# Altium footprint library con-harting.PCBLIB: 29 footprints (part 1 of 2)
Each footprint in its own frame and in the unit in brackets; x right, y up, seen from the top. Pads: shape width x height; smd on the part's side, far side on the other; paste and mask are expansions set on the pad; w line width, h text height; cw(c..) or ccw(c..) is an arc to the next point about the centre after c.
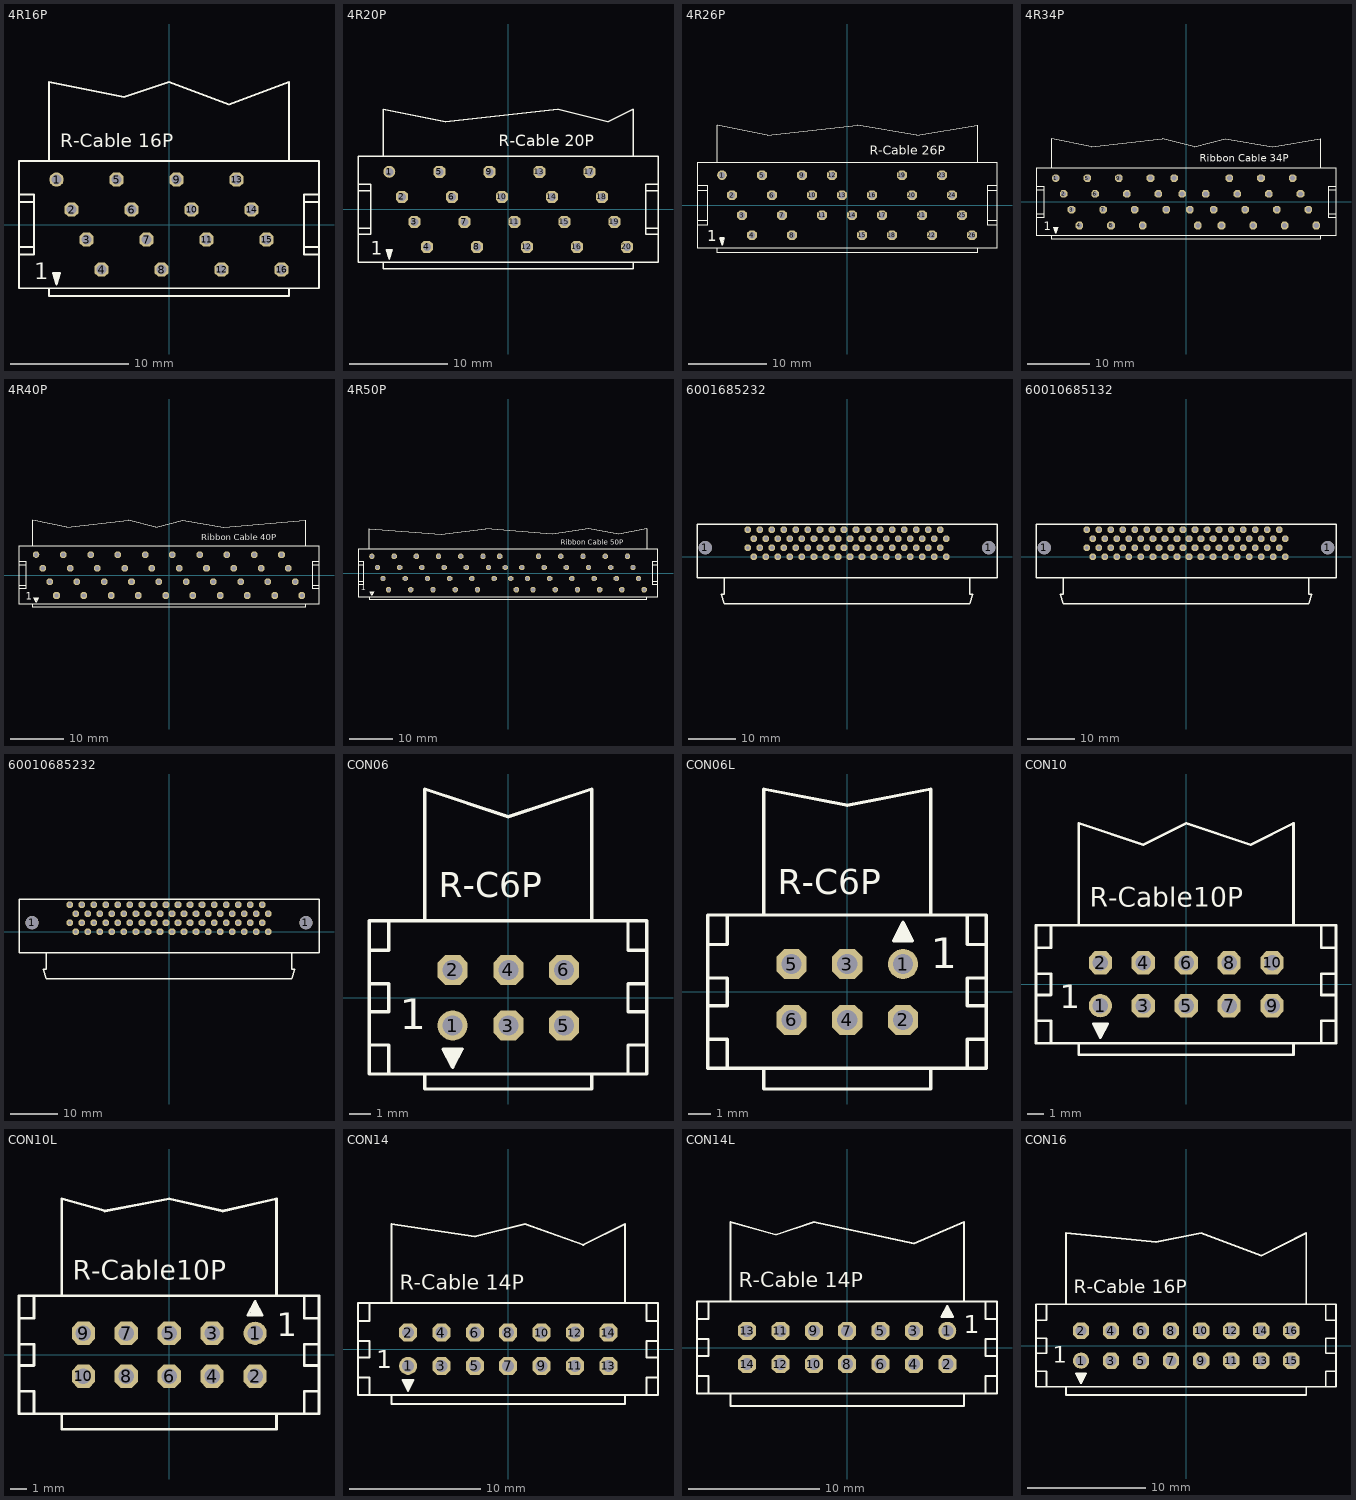
[diagram p0: the footprints below, top view; thin cyan lines are the x and y axes]

## 4R16P [mil]
pads (16):
  round 48 hole 32: 1(-375,150)
  oct 48x48 hole 32: 2(-325,50) 3(-275,-50) 4(-225,-150) 5(-175,150) 6(-125,50) 7(-75,-50) 8(-25,-150) 9(25,150) 10(75,50) 11(125,-50) 12(175,-150) 13(225,150) 14(275,50) 15(325,-50) 16(375,-150)
Top Overlay:
  rectangle: -380,-180 -370,-160
  rectangle: -370,-175 -365,-160
  rectangle: -385,-175 -380,-160
  rectangle: -380,-190 -370,-180
  lines w6: -375,-190 -375,-200 ; -500,-100 -450,-100 -450,-75 ; -500,-100 -500,-212 -400,-212 ; -500,-100 -500,-75 ; -500,-75 -450,-75 ; -500,-75 -500,75 ; -500,75 -500,100 ; -500,75 -450,75 ; -500,100 -500,212 -400,212 ; -500,100 -450,100 -450,75 ; -450,-75 -450,75 ; -400,-212 -400,-238 400,-238 400,-212 ; -400,-212 400,-212 ; -400,212 -400,475 -150,425 0,475 200,400 400,475 400,212 ; -400,212 400,212 ; -375,-200 -363,-162 -387,-162 -375,-200 ; 400,-212 500,-212 500,-100 ; 400,212 500,212 500,100 ; 450,-75 450,75 ; 450,-75 500,-75 ; 450,-75 450,-100 500,-100 ; 450,75 500,75 ; 450,75 450,100 500,100 ; 500,-100 500,-75 ; 500,-75 500,75 ; 500,75 500,100
  text "1" at -450,-200 h93
  text "R-Cable 16P" at -362,242 h77.5

## 4R20P [mil]
pads (20):
  round 48 hole 32: 1(-475,150)
  oct 48x48 hole 32: 2(-425,50) 3(-375,-50) 4(-325,-150) 5(-275,150) 6(-225,50) 7(-175,-50) 8(-125,-150) 9(-75,150) 10(-25,50) 11(25,-50) 12(75,-150) 13(125,150) 14(175,50) 15(225,-50) 16(275,-150) 17(325,150) 18(375,50) 19(425,-50) 20(475,-150)
Top Overlay:
  rectangle: -480,-180 -470,-160
  rectangle: -470,-175 -465,-160
  rectangle: -485,-175 -480,-160
  rectangle: -480,-190 -470,-180
  lines w6: -475,-190 -475,-200 ; -600,-100 -550,-100 -550,-75 ; -600,-100 -600,-212 -500,-212 ; -600,-100 -600,-75 ; -600,-75 -550,-75 ; -600,-75 -600,75 ; -600,75 -600,100 ; -600,75 -550,75 ; -600,100 -600,212 -500,212 ; -600,100 -550,100 -550,75 ; -550,-75 -550,75 ; -500,-212 -500,-238 500,-238 500,-212 ; -500,-212 500,-212 ; -500,212 -500,400 -250,350 200,400 400,350 500,400 500,212 ; -500,212 500,212 ; -475,-200 -463,-162 -487,-162 -475,-200 ; 500,-212 600,-212 600,-100 ; 500,212 600,212 600,100 ; 550,-75 550,75 ; 550,-75 600,-75 ; 550,-75 550,-100 600,-100 ; 550,75 600,75 ; 550,75 550,100 600,100 ; 600,-100 600,-75 ; 600,-75 600,75 ; 600,75 600,100
  text "1" at -550,-200 h93
  text "R-Cable 20P" at -37,237 h77.5

## 4R26P [mil]
pads (26):
  round 48 hole 32: 1(-625,150)
  oct 48x48 hole 32: 2(-575,50) 3(-525,-50) 4(-475,-150) 5(-425,150) 6(-375,50) 7(-325,-50) 8(-275,-150) 9(-225,150) 10(-175,50) 11(-125,-50) 12(-75,150) 13(-25,50) 14(25,-50) 15(75,-150) 16(125,50) 17(175,-50) 18(225,-150) 19(275,150) 20(325,50) 21(375,-50) 22(425,-150) 23(475,150) 24(525,50) 25(575,-50) 26(625,-150)
Top Overlay:
  rectangle: -630,-180 -620,-160
  rectangle: -620,-175 -615,-160
  rectangle: -635,-175 -630,-160
  rectangle: -630,-190 -620,-180
  lines w6: -625,-190 -625,-200 ; -750,-100 -700,-100 -700,-75 ; -750,-100 -750,-212 -650,-212 ; -750,-100 -750,-75 ; -750,-75 -700,-75 ; -750,-75 -750,75 ; -750,75 -750,100 ; -750,75 -700,75 ; -750,100 -750,212 -650,212 ; -750,100 -700,100 -700,75 ; -700,-75 -700,75 ; -650,-212 -650,-238 650,-238 650,-212 ; -650,-212 650,-212 ; -650,212 -650,400 -400,350 50,400 350,350 650,400 650,212 ; -650,212 650,212 ; -625,-200 -613,-162 -637,-162 -625,-200 ; 650,-212 750,-212 750,-100 ; 650,212 750,212 750,100 ; 700,-75 700,75 ; 700,-75 750,-75 ; 700,-75 700,-100 750,-100 ; 700,75 750,75 ; 700,75 700,100 750,100 ; 750,-100 750,-75 ; 750,-75 750,75 ; 750,75 750,100
  text "1" at -700,-200 h93
  text "R-Cable 26P" at 113,237 h77.5

## 4R34P [mil]
pads (34):
  round 48 hole 32: 1(-825,150)
  oct 48x48 hole 32: 2(-775,50) 3(-725,-50) 4(-675,-150) 5(-625,150) 6(-575,50) 7(-525,-50) 8(-475,-150) 9(-425,150) 10(-375,50) 11(-325,-50) 12(-275,-150) 13(-225,150) 14(-175,50) 15(-125,-50) 16(-75,150) 17(-25,50) 18(25,-50) 19(75,-150) 20(125,50) 21(175,-50) 22(225,-150) 23(275,150) 24(325,50) 25(375,-50) 26(425,-150) 27(475,150) 28(525,50) 29(575,-50) 30(625,-150) 31(675,150) 32(725,50) 33(775,-50) 34(825,-150)
Top Overlay:
  rectangle: -830,-180 -820,-160
  rectangle: -820,-175 -815,-160
  rectangle: -835,-175 -830,-160
  rectangle: -830,-190 -820,-180
  lines w6: -825,-190 -825,-200 ; -950,-100 -900,-100 -900,-75 ; -950,-100 -950,-212 -850,-212 ; -950,-100 -950,-75 ; -950,-75 -900,-75 ; -950,-75 -950,75 ; -950,75 -950,100 ; -950,75 -900,75 ; -950,100 -950,212 -850,212 ; -950,100 -900,100 -900,75 ; -900,-75 -900,75 ; -850,-212 -850,-238 850,-238 850,-212 ; -850,-212 850,-212 ; -850,212 -850,400 -600,350 -150,400 51,350 250,400 550,350 850,400 850,212 ; -850,212 850,212 ; -825,-200 -813,-162 -837,-162 -825,-200 ; 850,-212 950,-212 950,-100 ; 850,212 950,212 950,100 ; 900,-75 900,75 ; 900,-75 950,-75 ; 900,-75 900,-100 950,-100 ; 900,75 950,75 ; 900,75 900,100 950,100 ; 950,-100 950,-75 ; 950,-75 950,75 ; 950,75 950,100
  text "1" at -900,-200 h93
  text "Ribbon Cable 34P" at 88,237 h77.5

## 4R40P [mil]
pads (40):
  round 48 hole 32: 1(-975,150)
  oct 48x48 hole 32: 2(-925,50) 3(-875,-50) 4(-825,-150) 5(-775,150) 6(-725,50) 7(-675,-50) 8(-625,-150) 9(-575,150) 10(-525,50) 11(-475,-50) 12(-425,-150) 13(-375,150) 14(-325,50) 15(-275,-50) 16(-225,-150) 17(-175,150) 18(-125,50) 19(-75,-50) 20(-25,-150) 21(25,150) 22(75,50) 23(125,-50) 24(175,-150) 25(225,150) 26(275,50) 27(325,-50) 28(375,-150) 29(425,150) 30(475,50) 31(525,-50) 32(575,-150) 33(625,150) 34(675,50) 35(725,-50) 36(775,-150) 37(825,150) 38(875,50) 39(925,-50) 40(975,-150)
Top Overlay:
  rectangle: -985,-182 -965,-172
  rectangle: -975,-173 -960,-168
  rectangle: -990,-173 -975,-168
  rectangle: -980,-192 -970,-182
  lines w6: -975,-190 -975,-200 ; -1100,-100 -1050,-100 -1050,-75 ; -1100,-100 -1100,-212 -1000,-212 ; -1100,-100 -1100,-75 ; -1100,-75 -1050,-75 ; -1100,-75 -1100,75 ; -1100,75 -1100,100 ; -1100,75 -1050,75 ; -1100,100 -1100,212 -1000,212 ; -1100,100 -1050,100 -1050,75 ; -1050,-75 -1050,75 ; -1000,-212 -1000,-238 1000,-238 1000,-212 ; -1000,-212 1000,-212 ; -1000,212 -1000,400 -750,350 -300,400 -99,350 100,400 400,350 1000,400 1000,212 ; -1000,212 1000,212 ; -975,-200 -958,-167 -992,-167 -975,-200 ; 1000,-212 1100,-212 1100,-100 ; 1000,212 1100,212 1100,100 ; 1050,-75 1050,75 ; 1050,-75 1100,-75 ; 1050,-75 1050,-100 1100,-100 ; 1050,75 1100,75 ; 1050,75 1050,100 1100,100 ; 1100,-100 1100,-75 ; 1100,-75 1100,75 ; 1100,75 1100,100
  text "1" at -1050,-200 h93
  text "Ribbon Cable 40P" at 238,237 h77.5

## 4R50P [mil]
pads (50):
  round 48 hole 32: 1(-1225,150)
  oct 48x48 hole 32: 2(-1175,50) 3(-1125,-50) 4(-1075,-150) 5(-1025,150) 6(-975,50) 7(-925,-50) 8(-875,-150) 9(-825,150) 10(-775,50) 11(-725,-50) 12(-675,-150) 13(-625,150) 14(-575,50) 15(-525,-50) 16(-475,-150) 17(-425,150) 18(-375,50) 19(-325,-50) 20(-275,-150) 21(-225,150) 22(-175,50) 23(-125,-50) 24(-75,150) 25(-25,50) 26(25,-50) 27(75,-150) 28(125,50) 29(175,-50) 30(225,-150) 31(275,150) 32(325,50) 33(375,-50) 34(425,-150) 35(475,150) 36(525,50) 37(575,-50) 38(625,-150) 39(675,150) 40(725,50) 41(775,-50) 42(825,-150) 43(875,150) 44(925,50) 45(975,-50) 46(1025,-150) 47(1075,150) 48(1125,50) 49(1175,-50) 50(1225,-150)
Top Overlay:
  rectangle: -1235,-182 -1215,-172
  rectangle: -1225,-173 -1210,-168
  rectangle: -1240,-173 -1225,-168
  rectangle: -1230,-191 -1220,-181
  lines w6: -1250,-213 -1250,-238 1250,-238 1250,-212 ; -1225,-190 -1225,-200 ; 1250,213 1250,399 999,350 725,400 400,350 -199,400 -600,349 -1250,399 -1250,212 ; -1350,-100 -1300,-100 -1300,-75 ; -1350,-100 -1350,-212 1250,-212 ; -1350,-100 -1350,-75 ; -1350,-75 -1350,75 ; -1350,-75 -1300,-75 ; -1350,75 -1350,100 ; -1350,75 -1300,75 ; -1350,100 -1350,212 -1250,212 ; -1350,100 -1300,100 -1300,75 ; -1300,-75 -1300,75 ; -1250,212 1350,212 1350,100 ; -1225,-200 -1208,-167 -1242,-167 -1225,-200 ; 1250,-212 1350,-212 1350,-100 ; 1300,-75 1300,75 ; 1300,-75 1350,-75 ; 1300,-75 1300,-100 1350,-100 ; 1300,75 1300,100 1350,100 ; 1300,75 1350,75 ; 1350,-100 1350,-75 ; 1350,-75 1350,75 ; 1350,75 1350,100
  text "1" at -1325,-175 h93
  text "Ribbon Cable 50P" at 475,237 h77.5

## 6001685232 [mil]
pads (70):
  round 110.24 hole 110.24: 1(-1178.74,75) 1(1178.74,75)
  oct 55x55 hole 31.5: 1(-825,225) 2(-775,150) 3(-725,225) 4(-675,150) 5(-625,225) 6(-575,150) 7(-525,225) 8(-475,150) 9(-425,225) 10(-375,150) 11(-325,225) 12(-275,150) 13(-225,225) 14(-175,150) 15(-125,225) 16(-75,150) 17(-25,225) 18(25,150) 19(75,225) 20(125,150) 21(175,225) 22(225,150) 23(275,225) 24(325,150) 25(375,225) 26(425,150) 27(475,225) 28(525,150) 29(575,225) 30(625,150) 31(675,225) 32(725,150) 33(775,225) 34(825,150) 35(-825,75) 36(-725,75) 37(-625,75) 38(-525,75) 39(-425,75) 40(-325,75) 41(-225,75) 42(-125,75) 43(-25,75) 44(75,75) 45(175,75) 46(275,75) 47(375,75) 48(475,75) 49(575,75) 50(675,75) 51(775,75) 52(-775,0) 53(-675,0) 54(-575,0) 55(-475,0) 56(-375,0) 57(-275,0) 58(-175,0) 59(-75,0) 60(25,0) 61(125,0) 62(225,0) 63(325,0) 64(425,0) 65(525,0) 66(625,0) 67(725,0) 68(825,0)
Top Overlay:
  lines w11.94: -1019.69,-177.17 1019.69,-177.17 ; -1019.69,-177.17 -1248.03,-177.17 -1248.03,271.65 1248.03,271.65 1248.03,-177.17 1019.69,-177.17 ; -1019.69,-177.17 -1019.69,-311.02 -1047.24,-311.02 -1019.69,-393.7 1019.69,-393.7 1047.24,-311.02 1019.69,-311.02 1019.69,-177.17

## 60010685132 [mil]
pads (70):
  round 110.24 hole 110.24: 1(-1178.74,75) 1(1178.74,75)
  oct 55x55 hole 31.5: 1(825,150) 2(775,225) 3(725,150) 4(675,225) 5(625,150) 6(575,225) 7(525,150) 8(475,225) 9(425,150) 10(375,225) 11(325,150) 12(275,225) 13(225,150) 14(175,225) 15(125,150) 16(75,225) 17(25,150) 18(-25,225) 19(-75,150) 20(-125,225) 21(-175,150) 22(-225,225) 23(-275,150) 24(-325,225) 25(-375,150) 26(-425,225) 27(-475,150) 28(-525,225) 29(-575,150) 30(-625,225) 31(-675,150) 32(-725,225) 33(-775,150) 34(-825,225) 35(825,0) 36(725,0) 37(625,0) 38(525,0) 39(425,0) 40(325,0) 41(225,0) 42(125,0) 43(25,0) 44(-75,0) 45(-175,0) 46(-275,0) 47(-375,0) 48(-475,0) 49(-575,0) 50(-675,0) 51(-775,0) 52(775,75) 53(675,75) 54(575,75) 55(475,75) 56(375,75) 57(275,75) 58(175,75) 59(75,75) 60(-25,75) 61(-125,75) 62(-225,75) 63(-325,75) 64(-425,75) 65(-525,75) 66(-625,75) 67(-725,75) 68(-825,75)
Top Overlay:
  lines w11.94: -1019.69,-177.17 1019.69,-177.17 ; -1019.69,-177.17 -1248.03,-177.17 -1248.03,271.65 1248.03,271.65 1248.03,-177.17 1019.69,-177.17 ; -1019.69,-177.17 -1019.69,-311.02 -1047.24,-311.02 -1019.69,-393.7 1019.69,-393.7 1047.24,-311.02 1019.69,-311.02 1019.69,-177.17

## 60010685232 [mil]
pads (70):
  round 110.24 hole 110.24: 1(-1139.37,75) 1(1139.37,75)
  oct 55x55 hole 31.5: 1(-825,225) 2(-775,150) 3(-725,225) 4(-675,150) 5(-625,225) 6(-575,150) 7(-525,225) 8(-475,150) 9(-425,225) 10(-375,150) 11(-325,225) 12(-275,150) 13(-225,225) 14(-175,150) 15(-125,225) 16(-75,150) 17(-25,225) 18(25,150) 19(75,225) 20(125,150) 21(175,225) 22(225,150) 23(275,225) 24(325,150) 25(375,225) 26(425,150) 27(475,225) 28(525,150) 29(575,225) 30(625,150) 31(675,225) 32(725,150) 33(775,225) 34(825,150) 35(-825,75) 36(-725,75) 37(-625,75) 38(-525,75) 39(-425,75) 40(-325,75) 41(-225,75) 42(-125,75) 43(-25,75) 44(75,75) 45(175,75) 46(275,75) 47(375,75) 48(475,75) 49(575,75) 50(675,75) 51(775,75) 52(-775,0) 53(-675,0) 54(-575,0) 55(-475,0) 56(-375,0) 57(-275,0) 58(-175,0) 59(-75,0) 60(25,0) 61(125,0) 62(225,0) 63(325,0) 64(425,0) 65(525,0) 66(625,0) 67(725,0) 68(825,0)
Top Overlay:
  lines w11.94: -1019.69,-177.17 1019.69,-177.17 ; -1019.69,-177.17 -1248.03,-177.17 -1248.03,271.65 1248.03,271.65 1248.03,-177.17 1019.69,-177.17 ; -1019.69,-177.17 -1019.69,-311.02 -1047.24,-311.02 -1019.69,-393.7 1019.69,-393.7 1047.24,-311.02 1019.69,-311.02 1019.69,-177.17

## CON06 [mil]
pads (6):
  round 54 hole 36: 1(-100,-50)
  oct 54x54 hole 36: 2(-100,50) 3(0,-50) 4(0,50) 5(100,-50) 6(100,50)
Top Overlay:
  rectangle: -110,-109 -90,-99
  rectangle: -115,-99 -100,-94
  rectangle: -100,-99 -85,-94
  rectangle: -105,-117 -95,-107
  lines w6: -100,-115 -100,-125 ; -250,-85 -215,-85 -215,-137 ; -250,-85 -250,-25 ; -250,-85 -250,-137 -215,-137 ; -250,-25 -215,-25 -215,25 -250,25 ; -250,-25 -250,25 ; -250,25 -250,85 ; -250,85 -250,138 -215,138 ; -250,85 -215,85 -215,138 ; -215,-137 -150,-137 ; -215,138 -150,138 ; -150,-137 -150,-164 150,-164 150,-137 ; -150,-137 150,-137 ; -150,138 -150,375 0,325 150,375 150,138 ; -150,138 150,138 ; -100,-125 -83,-92 -117,-92 -100,-125 ; 150,-137 215,-137 ; 150,138 215,138 ; 215,-137 215,-85 249,-85 ; 215,-137 249,-137 249,-85 ; 215,138 249,138 249,85 ; 215,138 215,85 249,85 ; 249,-85 249,-25 ; 249,-25 215,-25 215,25 249,25 ; 249,-25 249,25 ; 249,25 249,85
  text "1" at -195,-75 h93
  text "R-C6P" at -125,165 h77.5

## CON06L [mil]
pads (6):
  round 54 hole 36: 1(100,50)
  oct 54x54 hole 36: 2(100,-50) 3(0,50) 4(0,-50) 5(-100,50) 6(-100,-50)
Top Overlay:
  rectangle: 90,99 110,109
  rectangle: 100,94 115,99
  rectangle: 85,94 100,99
  rectangle: 95,107 105,117
  lines w6: 100,115 100,125 ; -250,-85 -215,-85 -215,-137 ; -250,-85 -250,-25 ; -250,-85 -250,-137 -215,-137 ; -250,-25 -215,-25 -215,25 -250,25 ; -250,-25 -250,25 ; -250,25 -250,85 ; -250,85 -250,138 -215,138 ; -250,85 -215,85 -215,138 ; -215,-137 -150,-137 ; -215,138 -150,138 ; -150,-137 -150,-174 150,-174 150,-137 ; -150,-137 150,-137 ; -150,138 -150,364 0,335 150,364 150,138 ; -150,138 150,138 ; 100,125 83,92 117,92 100,125 ; 150,-137 215,-137 ; 150,138 215,138 ; 215,-137 215,-85 249,-85 ; 215,-137 249,-137 249,-85 ; 215,138 249,138 249,85 ; 215,138 215,85 249,85 ; 249,-85 249,-25 ; 249,-25 215,-25 215,25 249,25 ; 249,-25 249,25 ; 249,25 249,85
  text "1" at 150,25 h93
  text "R-C6P" at -125,160 h77.5

## CON10 [mil]
pads (10):
  round 54 hole 36: 1(-200,-50)
  oct 54x54 hole 36: 2(-200,50) 3(-100,-50) 4(-100,50) 5(0,-50) 6(0,50) 7(100,-50) 8(100,50) 9(200,-50) 10(200,50)
Top Overlay:
  rectangle: -210,-109 -190,-99
  rectangle: -215,-99 -200,-94
  rectangle: -200,-99 -185,-94
  rectangle: -205,-117 -195,-107
  lines w6: -200,-115 -200,-125 ; -350,-85 -315,-85 -315,-137 ; -350,-85 -350,-25 ; -350,-85 -350,-137 -315,-137 ; -350,-25 -315,-25 -315,25 -350,25 ; -350,-25 -350,25 ; -350,25 -350,85 ; -350,85 -350,138 -315,138 ; -350,85 -315,85 -315,138 ; -315,-137 -250,-137 ; -315,138 -250,138 ; -250,-137 -250,-164 250,-164 250,-137 ; -250,-137 250,-137 ; -250,138 -250,375 -100,325 0,375 150,325 250,375 250,138 ; -250,138 250,138 ; -200,-125 -183,-92 -217,-92 -200,-125 ; 250,-137 315,-137 ; 250,138 315,138 ; 315,-137 315,-85 349,-85 ; 315,-137 349,-137 349,-85 ; 315,138 349,138 349,85 ; 315,138 315,85 349,85 ; 349,-85 349,-25 ; 349,-25 315,-25 315,25 349,25 ; 349,-25 349,25 ; 349,25 349,85
  text "1" at -295,-75 h93
  text "R-Cable10P" at -225,165 h77.5

## CON10L [mil]
pads (10):
  round 54 hole 36: 1(200,50)
  oct 54x54 hole 36: 2(200,-50) 3(100,50) 4(100,-50) 5(0,50) 6(0,-50) 7(-100,50) 8(-100,-50) 9(-200,50) 10(-200,-50)
Top Overlay:
  rectangle: 190,99 210,109
  rectangle: 200,94 215,99
  rectangle: 185,94 200,99
  rectangle: 195,107 205,117
  lines w6: 200,115 200,125 ; -350,-85 -315,-85 -315,-137 ; -350,-85 -350,-25 ; -350,-85 -350,-137 -315,-137 ; -350,-25 -315,-25 -315,25 -350,25 ; -350,-25 -350,25 ; -350,25 -350,85 ; -350,85 -350,138 -315,138 ; -350,85 -315,85 -315,138 ; -315,-137 -250,-137 ; -315,138 -250,138 ; -250,-137 -250,-174 250,-174 250,-137 ; -250,-137 250,-137 ; -250,138 -250,364 -150,335 0,364 125,335 250,364 250,138 ; -250,138 250,138 ; 200,125 183,92 217,92 200,125 ; 250,-137 315,-137 ; 250,138 315,138 ; 315,-137 315,-85 349,-85 ; 315,-137 349,-137 349,-85 ; 315,138 349,138 349,85 ; 315,138 315,85 349,85 ; 349,-85 349,-25 ; 349,-25 315,-25 315,25 349,25 ; 349,-25 349,25 ; 349,25 349,85
  text "1" at 250,25 h93
  text "R-Cable10P" at -225,160 h77.5

## CON14 [mil]
pads (14):
  round 54 hole 36: 1(-300,-50)
  oct 54x54 hole 36: 2(-300,50) 3(-200,-50) 4(-200,50) 5(-100,-50) 6(-100,50) 7(0,-50) 8(0,50) 9(100,-50) 10(100,50) 11(200,-50) 12(200,50) 13(300,-50) 14(300,50)
Top Overlay:
  rectangle: -310,-109 -290,-99
  rectangle: -315,-99 -300,-94
  rectangle: -300,-99 -285,-94
  rectangle: -305,-117 -295,-107
  lines w6: -300,-115 -300,-125 ; -450,-85 -415,-85 -415,-137 ; -450,-85 -450,-25 ; -450,-85 -450,-137 -415,-137 ; -450,-25 -415,-25 -415,25 -450,25 ; -450,-25 -450,25 ; -450,25 -450,85 ; -450,85 -450,138 -415,138 ; -450,85 -415,85 -415,138 ; -415,-137 -350,-137 ; -415,138 -350,138 ; -350,-137 -350,-164 350,-164 350,-137 ; -350,-137 350,-137 ; -350,138 -350,375 -100,338 50,375 225,313 350,375 350,138 ; -350,138 350,138 ; -300,-125 -283,-92 -317,-92 -300,-125 ; 350,-137 415,-137 ; 350,138 415,138 ; 415,-137 415,-85 449,-85 ; 415,-137 449,-137 449,-85 ; 415,138 449,138 449,85 ; 415,138 415,85 449,85 ; 449,-85 449,-25 ; 449,-25 415,-25 415,25 449,25 ; 449,-25 449,25 ; 449,25 449,85
  text "1" at -395,-75 h93
  text "R-Cable 14P" at -325,163 h77.5

## CON14L [mil]
pads (14):
  round 54 hole 36: 1(300,50)
  oct 54x54 hole 36: 2(300,-50) 3(200,50) 4(200,-50) 5(100,50) 6(100,-50) 7(0,50) 8(0,-50) 9(-100,50) 10(-100,-50) 11(-200,50) 12(-200,-50) 13(-300,50) 14(-300,-50)
Top Overlay:
  rectangle: 290,99 310,109
  rectangle: 300,94 315,99
  rectangle: 285,94 300,99
  rectangle: 295,107 305,117
  lines w6: 300,115 300,125 ; -450,-85 -415,-85 -415,-137 ; -450,-85 -450,-25 ; -450,-85 -450,-137 -415,-137 ; -450,-25 -415,-25 -415,25 -450,25 ; -450,-25 -450,25 ; -450,25 -450,85 ; -450,85 -450,138 -415,138 ; -450,85 -415,85 -415,138 ; -415,-137 -350,-137 ; -415,138 -350,138 ; -350,-137 -350,-175 350,-175 350,-137 ; -350,-137 350,-137 ; -350,138 -350,376 -213,338 -100,376 200,312 350,376 350,138 ; -350,138 350,138 ; 300,125 283,92 317,92 300,125 ; 350,-137 415,-137 ; 350,138 415,138 ; 415,-137 415,-85 449,-85 ; 415,-137 449,-137 449,-85 ; 415,138 449,138 449,85 ; 415,138 415,85 449,85 ; 449,-85 449,-25 ; 449,-25 415,-25 415,25 449,25 ; 449,-25 449,25 ; 449,25 449,85
  text "1" at 350,25 h93
  text "R-Cable 14P" at -325,165 h77.5

## CON16 [mil]
pads (16):
  round 54 hole 36: 1(-350,-50)
  oct 54x54 hole 36: 2(-350,50) 3(-250,-50) 4(-250,50) 5(-150,-50) 6(-150,50) 7(-50,-50) 8(-50,50) 9(50,-50) 10(50,50) 11(150,-50) 12(150,50) 13(250,-50) 14(250,50) 15(350,-50) 16(350,50)
Top Overlay:
  rectangle: -360,-109 -340,-99
  rectangle: -365,-99 -350,-94
  rectangle: -350,-99 -335,-94
  rectangle: -355,-117 -345,-107
  lines w6: -350,-115 -350,-125 ; -500,-85 -465,-85 -465,-137 ; -500,-85 -500,-25 ; -500,-85 -500,-137 -465,-137 ; -500,-25 -465,-25 -465,25 -500,25 ; -500,-25 -500,25 ; -500,25 -500,85 ; -500,85 -500,138 -465,138 ; -500,85 -465,85 -465,138 ; -465,-137 -400,-137 ; -465,138 -400,138 ; -400,-137 -400,-164 400,-164 400,-137 ; -400,-137 400,-137 ; -400,138 -400,375 -100,345 50,375 250,300 400,375 400,138 ; -400,138 400,138 ; -350,-125 -333,-92 -367,-92 -350,-125 ; 400,-137 465,-137 ; 400,138 465,138 ; 465,-137 465,-85 499,-85 ; 465,-137 499,-137 499,-85 ; 465,138 499,138 499,85 ; 465,138 465,85 499,85 ; 499,-85 499,-25 ; 499,-25 465,-25 465,25 499,25 ; 499,-25 499,25 ; 499,25 499,85
  text "1" at -445,-75 h93
  text "R-Cable 16P" at -375,160 h77.5